# Altium schematic symbol library 3dp_stdc14_tape_frame.SchLib: 1 symbol
Pins are listed as number, name and electrical type; pins without a type are passive.

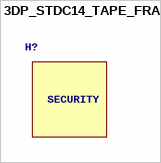
[diagram p0: symbol 3DP_STDC14_TAPE_FRAME]

## 3DP_STDC14_TAPE_FRAME
designator H?
3D-printed plastic frame used for security tape around STDC14 programming header
text: SECURITY